# Altium footprint library Notecarrier AF Local.PcbLib: 2 footprints
Each footprint in its own frame and in the unit in brackets; x right, y up, seen from the top. Pads: shape width x height; smd on the part's side, far side on the other; paste and mask are expansions set on the pad; w line width, h text height; cw(c..) or ccw(c..) is an arc to the next point about the centre after c.
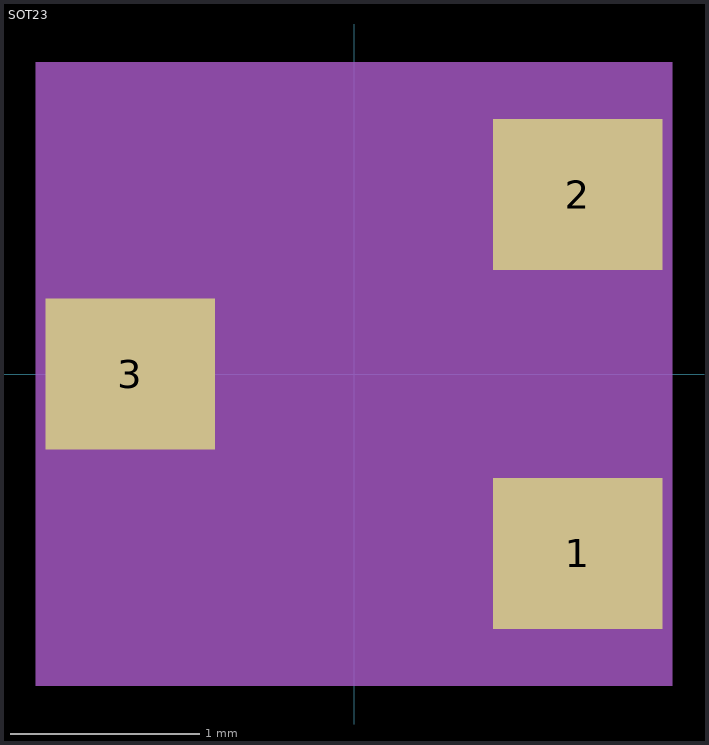
[diagram p0: the footprints below, top view; thin cyan lines are the x and y axes]

## PCBComponent_1 [mm]

## SOT23 [mm] "SOT23"
pads (3):
  rect 0.9x0.8 smd: 1(1.185,-0.95) 2(1.185,0.95) 3(-1.185,0)
Top 3D Body:
  region: -1.685,-1.65 -1.685,1.65 1.685,1.65 1.685,-1.65
Mechanical 26:
  text "2" at 1.285,0.84 h0.2
  text "3" at -1.085,-0.08 h0.2
  text "1" at 1.285,-1.08 h0.2
Top Assembly:
  dashed: 0.5,-1.65 -0.5,-1.65 -0.5,1.65 0.5,1.65
  pour cut-out: 0.3,1.45 0.3,-1.45 -0.3,-1.45 -0.3,1.45
3D body: height 3.81, standoff 0, extent -1.685,-1.65 1.685,1.65